# Altium schematic symbol library TFM322512ALMAR47MTAA.SchLib: 1 symbol
Pins are listed as number, name and electrical type; pins without a type are passive.

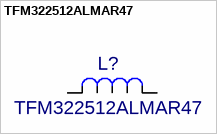
[diagram p0: symbol TFM322512ALMAR47]

## TFM322512ALMAR47
designator L?
Mfr_Name: TDK; Manufacturer_Part_Number: TFM322512ALMAR47MTAA; C: Copyright (C) 2018 Accelerated Designs. All rights reserved; Copyright: Copyright (C) 2022 Ultra Librarian. All rights reserved.; Digi-Key_Part_Number_1: 445-TFM322512ALMAR47MTAATR-ND; Digi-Key_Part_Number_2: 445-TFM322512ALMAR47MTAACT-ND; Digi-Key_Part_Number_3: 445-TFM322512ALMAR47MTAADKR-ND; Value: TFM322512ALMAR47
footprint IND_47MTAA_TDK
pins: 1, 2